# EAGLE library part DW01A (library custom)
Li-Ion Protection IC
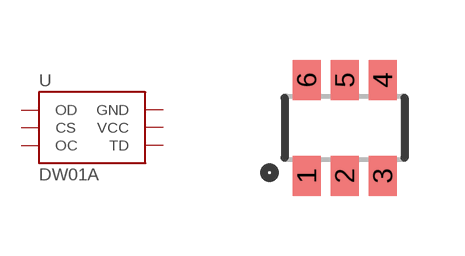
[diagram p74: symbol with the pads of SOT23-6; footprint SOT23-6]

Designator prefix U

## DW01A  [SOT23-6]
1  OD
2  CS
3  OC
4  TD
5  VCC
6  GND

## Footprint SOT23-6 (pad centres in mm)
smd 0.7 x 1: 1 -0.95,-1.2; 2 0,-1.2; 3 0.95,-1.2; 4 0.95,1.2; 5 0,1.2; 6 -0.95,1.2